# Altium schematic symbol library Displays.SchLib: 1 symbol
Pins are listed as number, name and electrical type; pins without a type are passive.

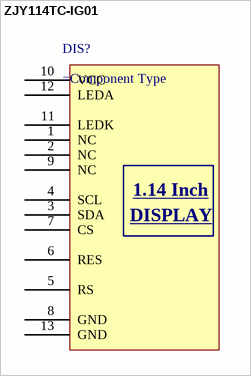
[diagram p0: symbol ZJY114TC-IG01]

## ZJY114TC-IG01
designator DIS?
pins: 1 NC, 2 NC, 3 SDA, 4 SCL, 5 RS, 6 RES, 7 CS, 8 GND, 9 NC, 10 VCC, 11 LEDK, 12 LEDA, 13 GND
text: 1.14 Inch; DISPLAY